# Altium footprint library WE-CMB HC.PcbLib: 1 footprints
Each footprint in its own frame and in the unit in brackets; x right, y up, seen from the top. Pads: shape width x height; smd on the part's side, far side on the other; paste and mask are expansions set on the pad; w line width, h text height; cw(c..) or ccw(c..) is an arc to the next point about the centre after c.
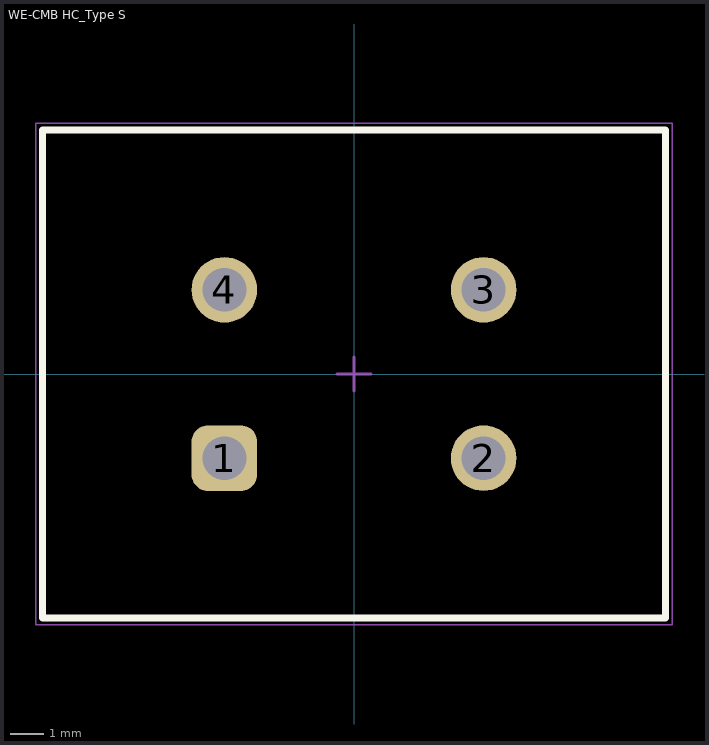
[diagram p0: the footprint, top view; thin cyan lines are the x and y axes]

## WE-CMB HC_Type S [mm] "THT Inductor, 4-Leads, Body 18,5x14,5mm"
height 22
pads (4):
  rrect50% 1.95x1.95 hole 1.3: 1(-3.85,-2.5)
  round 1.95 hole 1.3: 2(3.85,-2.5) 3(3.85,2.5) 4(-3.85,2.5)
Top Overlay:
  lines w0.2: -9.25,-7.25 -9.25,7.25 9.25,7.25 9.25,-7.25 -9.25,-7.25
Top Assembly:
  lines w0.1: -9.25,-7.25 9.25,-7.25 9.25,7.25 -9.25,7.25 -9.25,-7.25
Top Designator:
  text ".Designator" at -3.647,-0.357 h1
Top 3D Body:
  lines w0.1: -9.25,-7.25 -9.25,7.25 9.25,7.25 9.25,-7.25 -9.25,-7.25
Top Courtyard:
  lines w0.05: -9.45,-7.45 -9.45,7.45 9.45,7.45 9.45,-7.45 -9.45,-7.45
Top Component Center:
  lines w0.1: -0.5,0 0.5,0 ; 0,-0.5 0,0.5
3D body "7448229004.stp": height 20, standoff -3.4, extent -7.86,-6.5 7.86,6.5